# Altium footprint library Molex_43650_0402.PcbLib: 1 footprints
Each footprint in its own frame and in the unit in brackets; x right, y up, seen from the top. Pads: shape width x height; smd on the part's side, far side on the other; paste and mask are expansions set on the pad; w line width, h text height; cw(c..) or ccw(c..) is an arc to the next point about the centre after c.
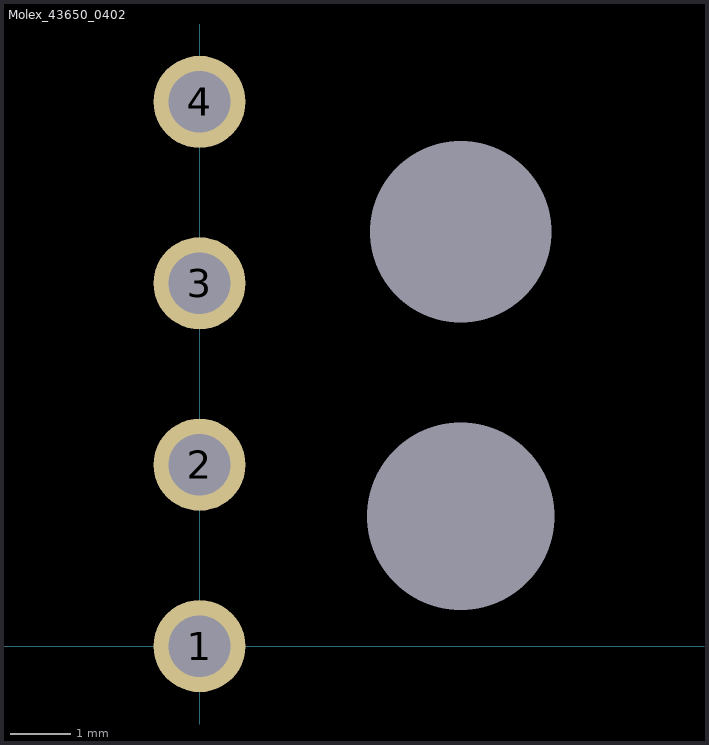
[diagram p0: the footprint, top view; thin cyan lines are the x and y axes]

## Molex_43650_0402 [mm]
pads (6):
  round 1.524 hole 1.02: 1(0,0) 2(0,3) 3(0,6) 4(0,9)
  round 0 hole 3.1 unplated: 5(4.32,2.15)
  round 0 hole 3 unplated: 5(4.32,6.85)
3D body "436500402.stp": height 5.57, standoff -3.34, extent -1.15,-3.325 8.75,12.325